# Altium footprint library 测试调试.PcbLib: 24 footprints (part 2 of 2)
Each footprint in its own frame and in the unit in brackets; x right, y up, seen from the top. Pads: shape width x height; smd on the part's side, far side on the other; paste and mask are expansions set on the pad; w line width, h text height; cw(c..) or ccw(c..) is an arc to the next point about the centre after c.
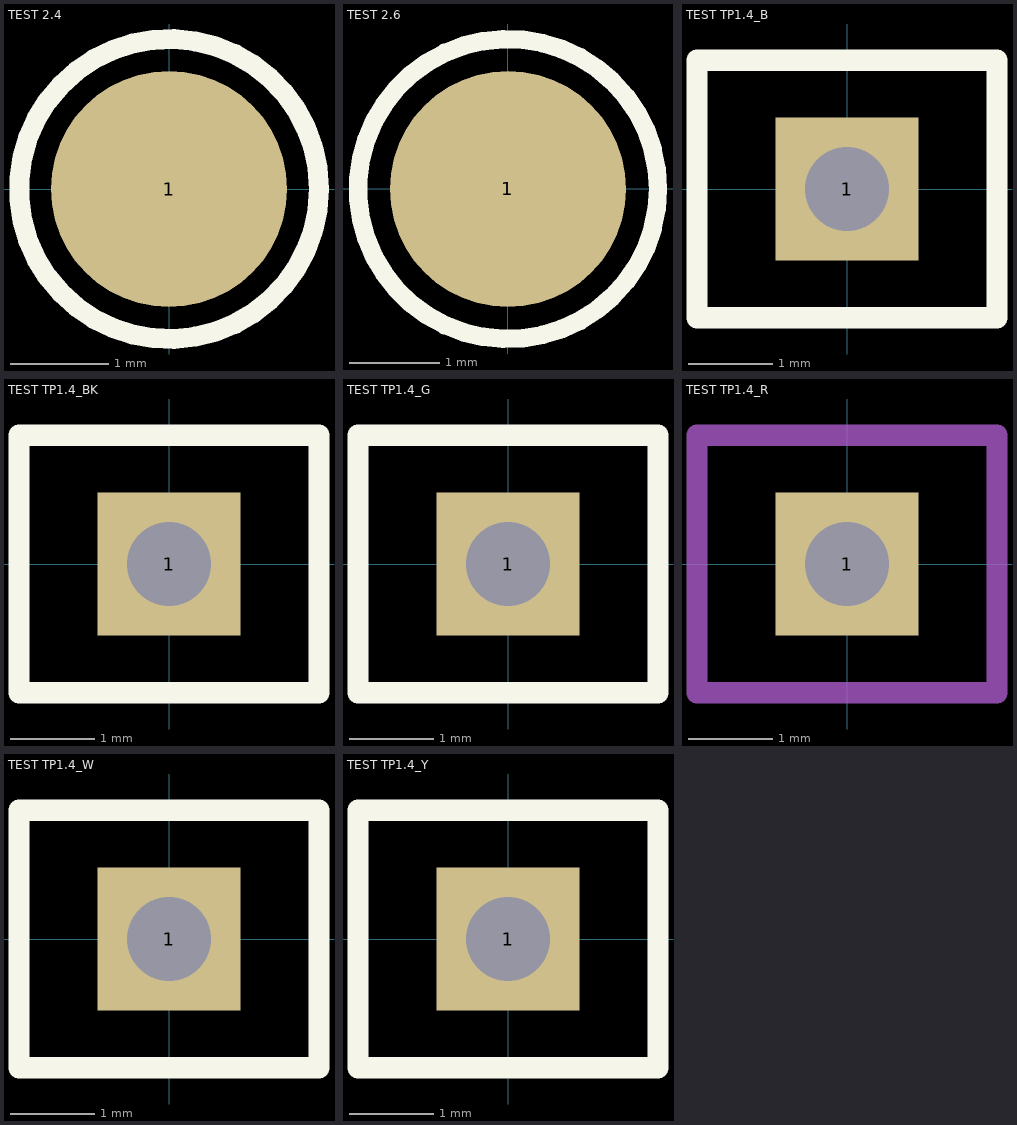
[diagram p1: the footprints below, top view; thin cyan lines are the x and y axes]

## TEST 2.4 [mm] "测试点2.4mm"
pads (1):
  round 2.4 smd paste-2.4: 1(0,0)
Top Overlay:
  circle w0.203: c0,0 r1.524

## TEST 2.6 [mm] "测试点2.6mm"
pads (1):
  round 2.6 smd paste-2.6: 1(0,0)
Top Overlay:
  circle w0.203: c0,0 r1.651

## TEST TP1.4_B [mm] "蓝色，测试环"
pads (1):
  rect 1.7x1.7 hole 1: 1(0,0)
Top Overlay:
  lines w0.254: -1.778,-1.524 1.778,-1.524 1.778,1.524 -1.778,1.524 -1.778,-1.524
3D body "TEST 3.5R_B.STEP": height 5.41, standoff -3.15, extent -1.675,-1.4 1.675,1.4

## TEST TP1.4_BK [mm] "黑色，测试环"
pads (1):
  rect 1.7x1.7 hole 1: 1(0,0)
Top Overlay:
  lines w0.254: -1.778,-1.524 1.778,-1.524 1.778,1.524 -1.778,1.524 -1.778,-1.524
3D body "TEST 3.5R_BK.STEP": height 5.41, standoff -3.15, extent -1.675,-1.4 1.675,1.4

## TEST TP1.4_G [mm] "绿色，测试环"
pads (1):
  rect 1.7x1.7 hole 1: 1(0,0)
Top Overlay:
  lines w0.254: -1.778,-1.524 -1.778,1.524 1.778,1.524 1.778,-1.524 -1.778,-1.524
3D body "TEST 3.5R_G.STEP": height 5.41, standoff -3.15, extent -1.675,-1.4 1.675,1.4

## TEST TP1.4_R [mm] "红色，测试环"
pads (1):
  rect 1.7x1.7 hole 1: 1(0,0)
Mechanical 13:
  lines w0.254: -1.778,-1.524 1.778,-1.524 1.778,1.524 -1.778,1.524 -1.778,-1.524
3D body "TEST 3.5R_R.STEP": height 5.41, standoff -3.15, extent -1.675,-1.4 1.675,1.4

## TEST TP1.4_W [mm] "白色，测试环"
pads (1):
  rect 1.7x1.7 hole 1: 1(0,0)
Top Overlay:
  lines w0.254: -1.778,-1.524 -1.778,1.524 1.778,1.524 1.778,-1.524 -1.778,-1.524
3D body "TEST 3.5R_W.STEP": height 5.41, standoff -3.15, extent -1.675,-1.4 1.675,1.4

## TEST TP1.4_Y [mm] "黄色，测试环"
pads (1):
  rect 1.7x1.7 hole 1: 1(0,0)
Top Overlay:
  lines w0.254: -1.778,-1.524 1.778,-1.524 1.778,1.524 -1.778,1.524 -1.778,-1.524
3D body "TEST 3.5R_Y.STEP": height 5.41, standoff -3.15, extent -1.675,-1.4 1.675,1.4